# Altium footprint library GyroBoard.PcbLib: 17 footprints (part 2 of 2)
Each footprint in its own frame and in the unit in brackets; x right, y up, seen from the top. Pads: shape width x height; smd on the part's side, far side on the other; paste and mask are expansions set on the pad; w line width, h text height; cw(c..) or ccw(c..) is an arc to the next point about the centre after c.
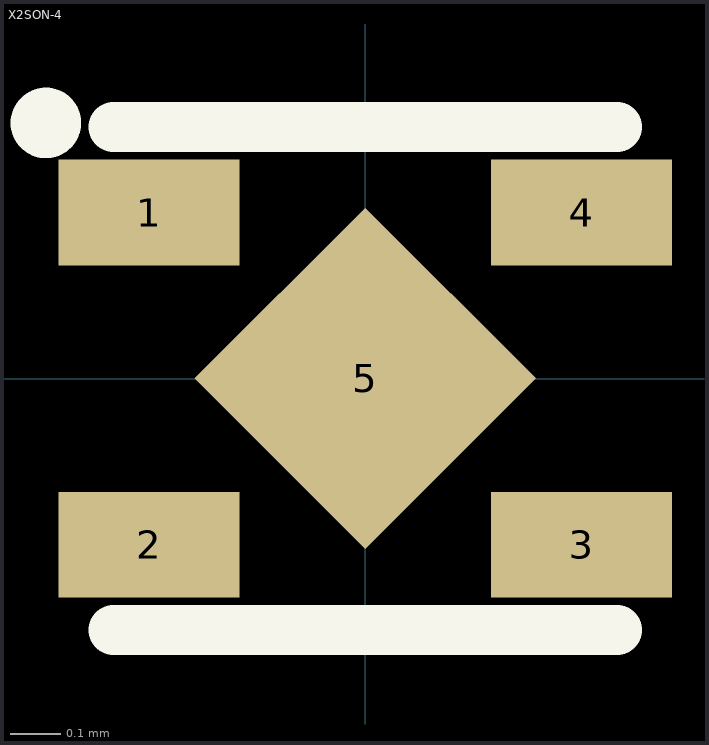
[diagram p1: the footprint, top view; thin cyan lines are the x and y axes]

## X2SON-4 [mm]
pads (5):
  rect 0.36x0.21 smd: 1(-0.43,0.33) 2(-0.43,-0.33) 3(0.43,-0.33) 4(0.43,0.33)
  rect 0.48x0.48 smd rot 45: 5(0,0)
Top Overlay:
  circle w0.1: c-0.635,0.508 r0.02
  lines w0.1: -0.5,-0.5 0.5,-0.5 ; -0.5,0.5 0.5,0.5